# Altium footprint library inductors.PcbLib: 43 footprints (part 2 of 3)
Each footprint in its own frame and in the unit in brackets; x right, y up, seen from the top. Pads: shape width x height; smd on the part's side, far side on the other; paste and mask are expansions set on the pad; w line width, h text height; cw(c..) or ccw(c..) is an arc to the next point about the centre after c.
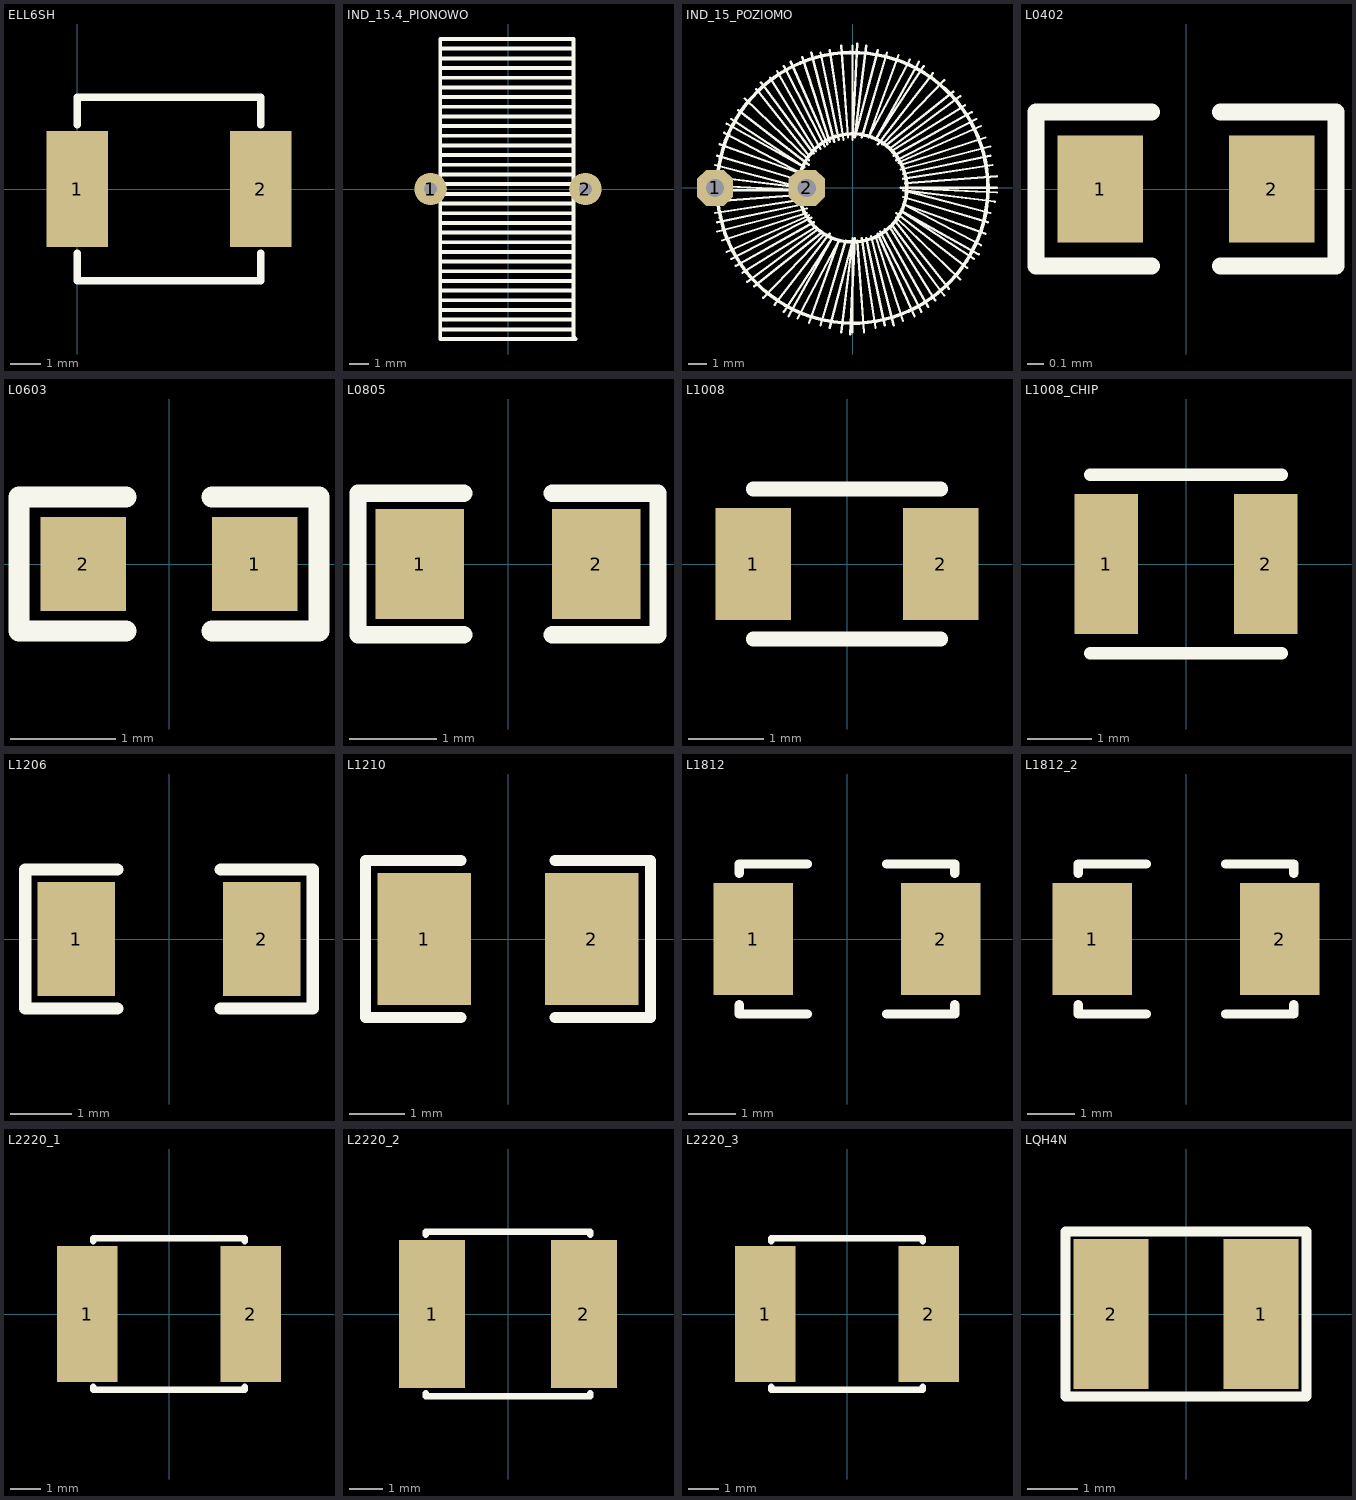
[diagram p1: the footprints below, top view; thin cyan lines are the x and y axes]

## ELL6SH [mm]
pads (2):
  rect 2x3.8 smd: 1(0,0) 2(6,0)
Top Overlay:
  lines w0.254: 0,-2.1 0,-3 6,-3 6,-2.1 ; 0,2.1 0,3 6,3 6,2.1

## IND_15.4_PIONOWO [mm]
height 15.4
pads (2):
  round 1.7 hole 0.7: 1(-4.064,0) 2(4.064,0)
Top Overlay:
  lines w0.203: -3.556,-7.366 3.429,-7.366 ; -3.556,-6.858 3.429,-6.858 ; -3.556,-6.35 3.429,-6.35 ; -3.556,-5.842 3.429,-5.842 ; -3.556,-5.334 3.429,-5.334 ; -3.556,-4.826 3.429,-4.826 ; -3.556,1.27 3.429,1.27 ; -3.556,1.778 3.429,1.778 ; -3.556,2.286 3.429,2.286 ; -3.556,2.794 3.429,2.794 ; -3.556,3.302 3.429,3.302 ; -3.556,3.81 3.429,3.81 ; -3.556,4.318 3.429,4.318 ; -3.556,4.826 3.429,4.826 ; -3.556,5.334 3.429,5.334 ; -3.556,5.842 3.429,5.842 ; -3.556,6.35 3.429,6.35 ; -3.556,6.858 3.429,6.858 ; -3.556,7.366 3.429,7.366 ; -3.556,-7.874 -3.556,7.874 3.429,7.874 3.429,-7.747 3.556,-7.874 -3.556,-7.874 ; -3.556,-4.318 3.429,-4.318 -3.556,-4.318 ; -3.556,-3.81 3.429,-3.81 -3.556,-3.81 ; -3.556,-3.302 3.429,-3.302 -3.556,-3.302 ; -3.556,-2.794 3.429,-2.794 -3.556,-2.794 ; -3.556,-2.286 3.429,-2.286 -3.556,-2.286 ; -3.556,-1.778 3.429,-1.778 -3.556,-1.778 ; -3.556,-1.27 3.429,-1.27 -3.556,-1.27 ; -3.556,-0.762 3.429,-0.762 -3.556,-0.762 ; -3.556,-0.254 3.429,-0.254 -3.556,-0.254 ; -3.556,0.254 3.429,0.254 -3.556,0.254 ; -3.556,0.762 3.429,0.762 -3.556,0.762

## IND_15_POZIOMO [mm]
height 7
pads (2):
  oct 2x2 hole 1: 1(-7.62,0) 2(-2.54,0)
Top Overlay:
  circle w0.2: c0,0 r7.5
  circle w0.2: c0,0 r3
  lines w0.127: -8.001,0.127 -2.667,-0.127 -7.874,-0.127 ; -7.874,-0.762 -2.794,-0.381 ; -7.874,0.635 -2.794,0 -7.62,1.27 ; -7.62,-1.397 -2.667,-0.635 ; -7.493,-2.413 -2.54,-1.143 ; -7.493,-1.905 -2.667,-0.889 ; -7.493,1.778 -2.794,0.381 ; -7.366,2.413 -2.794,0.762 -7.112,3.048 ; -7.239,-2.921 -2.54,-1.397 ; -6.985,-3.556 -2.413,-1.524 ; -6.985,3.556 -2.667,1.143 -6.731,3.81 ; -6.731,-3.937 -2.286,-1.651 ; -6.477,-4.318 -2.159,-1.905 ; -6.35,4.318 -2.413,1.27 ; -6.096,-4.699 -2.032,-2.159 ; -5.969,4.953 -2.413,1.524 ; -5.842,-5.207 -1.905,-2.286 ; -5.461,-5.461 -1.778,-2.54 ; -5.334,5.461 -2.413,1.778 ; -5.08,5.842 -2.159,1.905 ; -4.953,-6.096 -1.524,-2.54 ; -4.572,6.096 -2.032,2.032 ; -4.318,-6.477 -1.27,-2.54 ; -4.191,6.477 -1.778,2.159 ; -3.81,-6.858 -1.143,-2.794 -3.556,-7.112 ; -3.81,6.731 -1.524,2.286 ; -3.429,6.985 -1.397,2.413 ; -3.048,-7.239 -0.762,-2.921 -2.413,-7.493 ; -2.794,7.239 -1.27,2.54 ; -2.286,7.493 -1.016,2.54 ; -1.778,-7.62 -0.381,-2.921 ; -1.778,7.493 -0.762,2.667 ; -1.27,-7.747 0,-2.921 -0.635,-8.001 ; -1.27,7.62 -0.508,2.667 ; -0.635,7.874 -0.254,2.794 ; -0.127,-8.128 0.127,-2.794 ; 0,-8.001 0,-2.794 ; 0,7.874 0,2.667 0.254,8.001 ; 0.254,-2.921 0.635,-8.001 ; 0.508,-2.794 1.27,-7.747 ; 0.508,2.794 1.905,7.493 ; 0.762,-2.794 1.778,-7.62 ; 0.762,7.874 0.127,2.794 1.397,7.62 ; 1.016,-2.667 2.286,-7.62 ; 1.27,-2.667 2.794,-7.366 ; 1.397,-2.54 3.429,-7.112 ; 1.397,2.413 4.445,6.35 ; 1.524,-2.413 3.81,-6.858 ; 1.651,2.413 5.08,5.969 ; 1.778,-2.286 4.191,-6.604 ; 1.905,2.413 5.588,5.334 ; 2.032,-2.159 4.572,-6.223 ; 2.032,2.159 5.969,5.08 ; 2.159,-2.032 5.08,-5.969 ; 2.159,2.032 6.223,4.572 ; 2.286,1.778 6.604,4.191 ; 2.413,-1.905 5.334,-5.588 ; 2.413,-1.651 5.969,-5.08 ; 2.413,-1.397 6.35,-4.445 ; 2.413,1.524 6.858,3.81 ; 2.54,1.397 7.112,3.429 ; 2.54,7.366 0.889,2.794 3.175,7.112 ; 2.667,0 8.001,-0.254 ; 2.667,1.016 7.62,2.286 ; 2.667,1.27 7.366,2.794 ; 2.794,-0.508 7.493,-1.905 ; 2.794,0 8.001,0 ; 2.794,0.508 7.747,1.27 ; 2.794,0.762 7.62,1.778 ; 2.921,0.254 8.001,0.635 ; 3.683,6.985 1.27,2.667 3.937,6.731 ; 6.731,-3.937 2.667,-1.27 6.985,-3.683 ; 7.112,-3.175 2.794,-0.889 7.366,-2.54 ; 7.62,-1.397 2.794,-0.127 7.874,-0.762

## L0402 [mil]
pads (2):
  rect 20x25 smd: 1(-20,0) 2(20,0)
Top Overlay:
  lines w3.94: -8,-18 -35,-18 -35,18 -8,18 ; 8,-18 35,-18 35,18 8,18
3D body "User Library-Chip Inductor.step": height 19.29, standoff -0.39, extent -19.68,-11.62 19.68,12

## L0603 [mil]
pads (2):
  rect 32x35 smd: 1(32,0) 2(-32,0)
Top Overlay:
  lines w7.87: -16,-25 -56,-25 -56,25 -16,25 ; 16,-25 56,-25 56,25 16,25
3D body "User Library-Chip Inductor.step": height 31.5, standoff 0, extent -29.5,-18.4 33.5,19

## L0805 [mil]
height 49.21
pads (2):
  rect 40x50 smd: 1(-40,0) 2(40,0)
Top Overlay:
  lines w7.87: -20,-32 -68,-32 -68,32 -20,32 ; 20,-32 68,-32 68,32 20,32
3D body "User Library-Chip Inductor.step": height 37.4, standoff 0, extent -39.36,-23.62 39.38,23.63

## L1008 [mm] "Molded Inductor 2,5x2,0x1,9mm (EIA1008)"
pads (2):
  rect 1x1.5 smd: 1(-1.25,0) 2(1.25,0)
Top Overlay:
  lines w0.2: -1.25,-1 1.25,-1 ; -1.25,1 1.25,1
3D body "User Library-INDM2520X190N.step": height 1.8, standoff 0, extent -1.25,-1 1.25,1

## L1008_CHIP [mm] "Molded Inductor 2,5x2,0x1,9mm (EIA1008)"
pads (2):
  rect 1x2.2 smd: 1(-1.25,0) 2(1.25,0)
Top Overlay:
  lines w0.2: -1.5,-1.4 1.5,-1.4 ; -1.5,1.4 1.5,1.4
3D body "User Library-1008CS.step": height 2.06, standoff 0.03, extent -1.46,-1.395 1.46,1.395

## L1206 [mil]
pads (2):
  rect 50x74 smd: 1(-60,0) 2(60,0)
Top Overlay:
  lines w7.87: -33.46,-45 -93,-45 -93,45 -33.46,45 ; 33.46,-45 92.91,-45 92.91,45 33.46,45
3D body "SW3dPS-FER1206.STEP": height 71.37, standoff -15.9, extent -65,-32 66,31

## L1210 [mm] "Molded Inductor 3,2x2,5x2,4mm (EIA1210)"
height 2.4
pads (2):
  rect 1.7x2.4 smd: 1(-1.524,0) 2(1.524,0)
Top Overlay:
  lines w0.2: -0.85,-1.422 -2.591,-1.422 -2.591,1.422 -0.85,1.422 ; 0.85,-1.422 2.591,-1.422 2.591,1.422 0.85,1.422
3D body "User Library-INDM3225X240N (1).step": height 2.4, standoff 0, extent -1.79,-1.35 1.79,1.35

## L1812 [mm] "Molded Inductor 4,5x3,2x3,2mm (EIA1812)"
height 2.4
pads (2):
  rect 1.7x2.4 smd: 1(-2,0) 2(2,0)
Top Overlay:
  lines w0.2: -2.3,-1.4 -2.3,-1.6 -0.85,-1.6 ; -2.3,1.4 -2.3,1.6 -0.85,1.6 ; 0.85,-1.6 2.3,-1.6 2.3,-1.4 ; 0.85,1.6 2.3,1.6 2.3,1.4
3D body "User Library-L_SMD.step": height 3.2, standoff 0, extent -2.25,-1.6 2.25,1.6

## L1812_2 [mm] "Molded Inductor 4,5x3,2x3,2mm (EIA1812)"
height 2.4
pads (2):
  rect 1.7x2.4 smd: 1(-2,0) 2(2,0)
Top Overlay:
  lines w0.2: -2.3,-1.4 -2.3,-1.6 -0.85,-1.6 ; -2.3,1.4 -2.3,1.6 -0.85,1.6 ; 0.85,-1.6 2.3,-1.6 2.3,-1.4 ; 0.85,1.6 2.3,1.6 2.3,1.4
3D body "User Library-lqh4c 1812.STEP": height 2.6, standoff 0, extent -2.3,-1.6 2.3,1.6

## L2220_1 [mm] "Molded Inductor 5,6x5,0x4,0mm (EIA2220)"
height 4
pads (2):
  rect 2x4.5 smd: 1(-2.7,0) 2(2.7,0)
Top Overlay:
  lines w0.2: -2.5,-2.4 -2.5,-2.5 2.5,-2.5 2.5,-2.4 ; -2.5,2.4 -2.5,2.5 2.5,2.5 2.5,2.4
3D body "User Library-Chip Inductor.step": height 1.8, standoff 0, extent -2.85,-2.5 2.85,2.5

## L2220_2 [mm] "Molded Inductor 5,6x5,0x4,0mm (EIA2220)"
height 4
pads (2):
  rect 2x4.5 smd: 1(-2.3,0) 2(2.3,0)
Top Overlay:
  lines w0.2: -2.5,-2.4 -2.5,-2.5 2.5,-2.5 2.5,-2.4 ; -2.5,2.4 -2.5,2.5 2.5,2.5 2.5,2.4
3D body "User Library-LQH55D series.step": height 4.7, standoff 0, extent -2.85,-2.5 2.85,2.5

## L2220_3 [mm] "Molded Inductor 5,6x5,0x4,0mm (EIA2220)"
height 4
pads (2):
  rect 2x4.5 smd: 1(-2.7,0) 2(2.7,0)
Top Overlay:
  lines w0.2: -2.5,-2.4 -2.5,-2.5 2.5,-2.5 2.5,-2.4 ; -2.5,2.4 -2.5,2.5 2.5,2.5 2.5,2.4
3D body "User Library-SIMID 2220-H.step": height 5.3, standoff 0, extent -2.675,-2.5 2.675,2.5

## LQH4N [mm]
pads (2):
  rect 1.5x3 smd: 1(1.5,0) 2(-1.5,0)
Top Overlay:
  lines w0.203: -2.413,-1.651 -2.413,1.651 2.413,1.651 2.413,-1.651 -2.413,-1.651